# EAGLE library part RJ45_TH (library 3D_MIG_Controller)
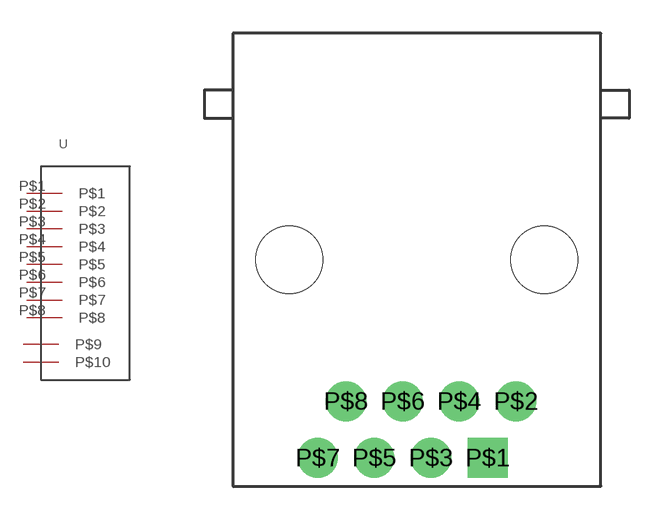
[diagram p15: symbol with the pads of RJ45_TH; footprint RJ45_TH]

Designator prefix -

## RJ45_TH  [RJ45_TH]
P$1  P$1
P$2  P$2
P$3  P$3
P$4  P$4
P$5  P$5
P$6  P$6
P$7  P$7
P$8  P$8

## Footprint RJ45_TH (pad centres in mm)
drill 1.2 square: P$1 -1.27,0
drill 1.2: P$2 0,2.54; P$3 -3.81,0; P$4 -2.54,2.54; P$5 -6.35,0; P$6 -5.08,2.54; P$7 -8.89,0; P$8 -7.62,2.54
hole 3 at 1.27,8.89
hole 3 at -10.16,8.89